# Altium footprint library Kanaloa_v2.0.0_Loko.PcbLib: 26 footprints (part 1 of 2)
Each footprint in its own frame and in the unit in brackets; x right, y up, seen from the top. Pads: shape width x height; smd on the part's side, far side on the other; paste and mask are expansions set on the pad; w line width, h text height; cw(c..) or ccw(c..) is an arc to the next point about the centre after c.
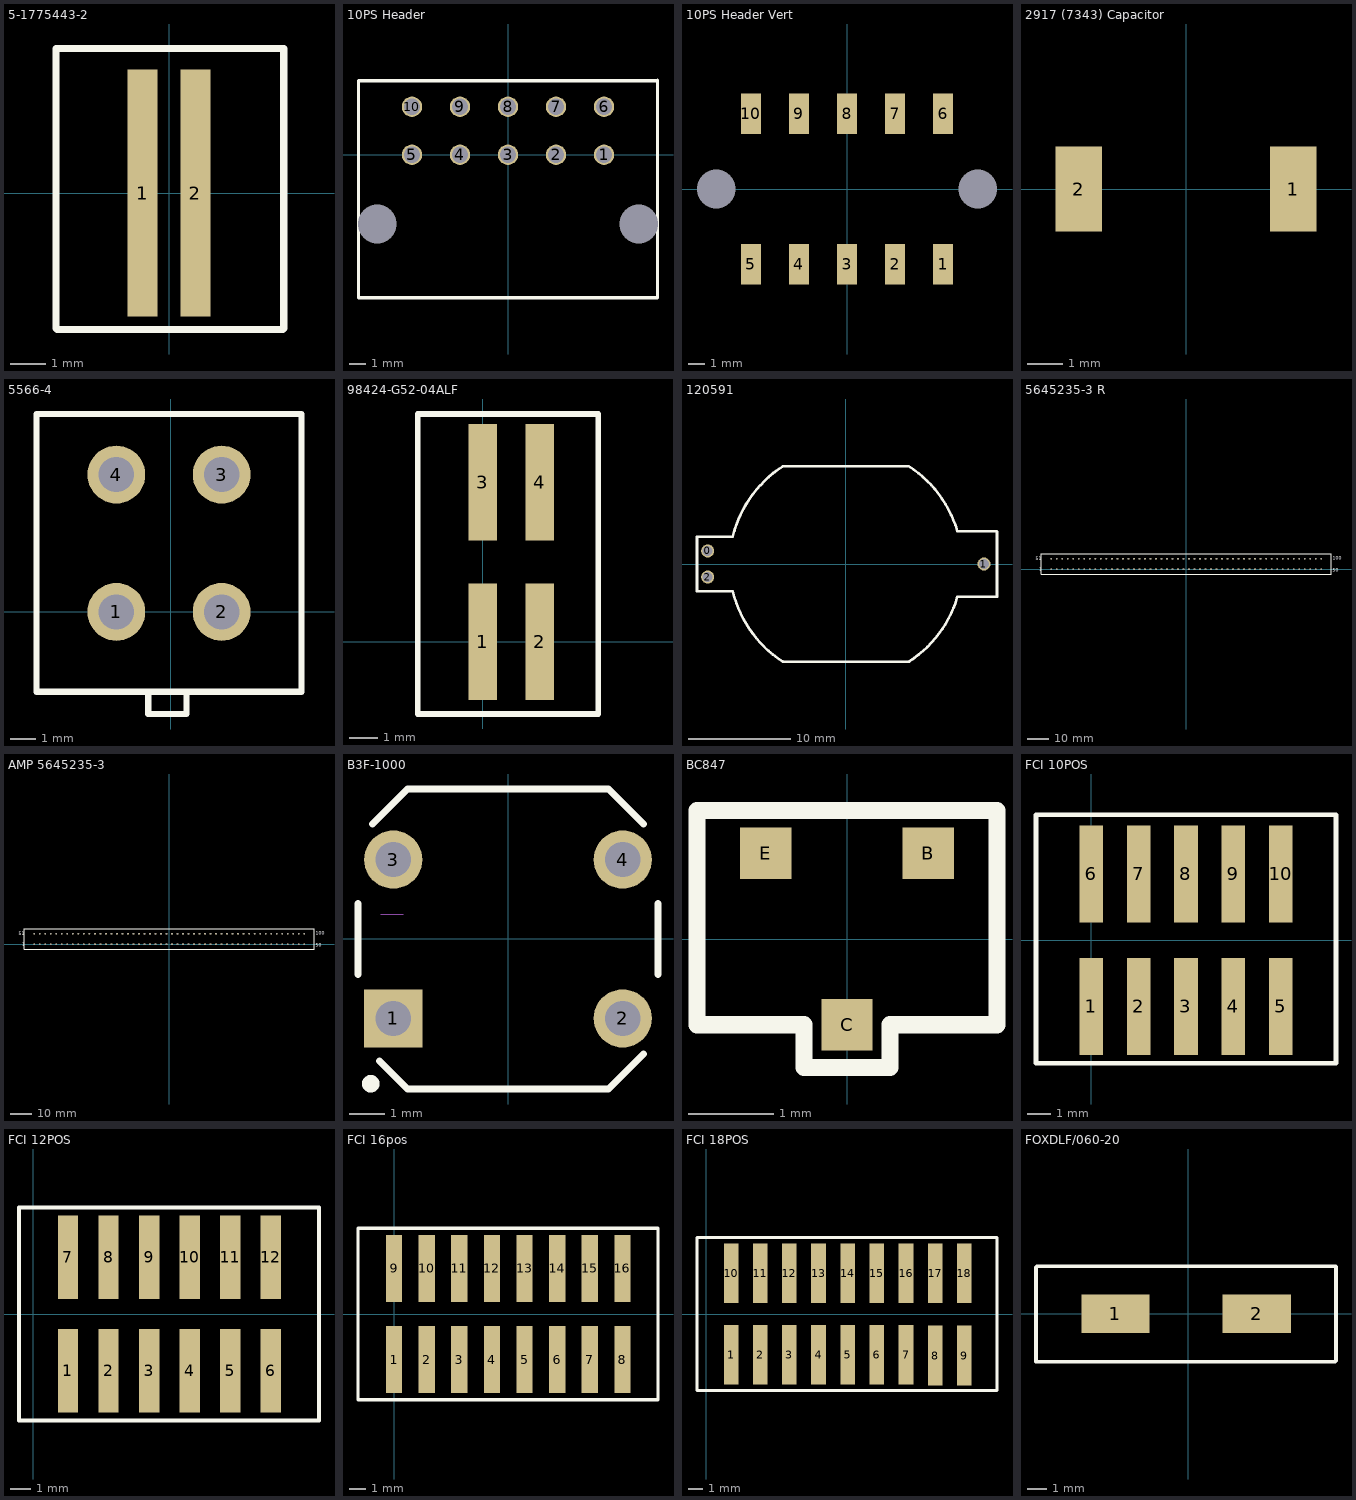
[diagram p0: the footprints below, top view; thin cyan lines are the x and y axes]

## 5-1775443-2 [mm] "CONN HEADER 1.5MM 2 POS Vert SMD"
pads (2):
  rect 0.85x7 smd: 1(-0.75,0) 2(0.75,0)
Top Overlay:
  lines w0.2: -3.2,4.089 -3.2,-3.835 -3.175,-3.861 3.226,-3.861 3.251,-3.835 3.251,4.089 -3.15,4.089
3D body: height 4.95, standoff -0.05, extent -2.25,-2.733 2.25,3.267

## 10PS Header [mil] "0430451021"
pads (12):
  round 50 hole 40: 1(236,0) 2(118,0) 3(0,0) 4(-118,0) 5(-236,0) 6(236,118) 7(118,118) 8(0,118) 9(-118,118) 10(-236,118)
  round 0 hole 95 mask+0: ""(-321,-170) ""(321,-170)
Top Overlay:
  lines w7.87: 366,182 -367,182 -367,-351 367,-351 367,183
3D body: height 200, standoff 0, extent -367,-350 367,34

## 10PS Header Vert [mil]
pads (12):
  rect 50x100 smd: 1(236,-185) 2(118,-185) 3(0,-185) 4(-118,-185) 5(-236,-185) 6(236,185) 7(118,185) 8(0,185) 9(-118,185) 10(-236,185)
  round 0 hole 95: 15(321,0) 16(-321,0)
3D body: height 389.88, standoff -79.02, extent -376.97,-220.47 376.97,220.48

## 2917 (7343) Capacitor [mil] "Tantalum Capacitor"
pads (2):
  rect 51x94 smd: 1(118,0) 2(-118,0)
3D body: height 122.05, standoff 0, extent -149.6,-90.54 149.62,90.56

## 5566-4 [mm]
pads (4):
  round 2.3 hole 1.4: 1(-2.159,0) 2(2.032,0) 3(2.032,5.461) 4(-2.159,5.461)
Top Overlay:
  lines w0.254: -0.889,-3.175 -0.889,-4.064 0.635,-4.064 0.635,-3.302 ; -5.334,-3.175 -5.334,7.874 5.207,7.874 5.207,-3.175 -5.334,-3.175
3D body: height 12.8, standoff -3.5, extent -5.334,-3.253 5.066,7.747

## 98424-G52-04ALF [mm] "FCI Connector"
pads (4):
  rect 1x4.1 smd: 1(0,0) 2(2,0) 3(0,5.6) 4(2,5.6)
Top Overlay:
  lines w0.2: -2.286,-2.54 -1.905,-2.54 4.064,-2.54 4.064,8.001 -2.286,8.001 -2.286,-2.54
3D body: height 6.43, standoff -0.02, extent -2.032,-1.706 3.968,7.294

## 120591 [mil]
pads (3):
  round 50 hole 38: 0(-530,50) 1(530,0) 2(-530,-50)
Top Overlay:
  lines w10: -571,-105 -433.46,-105 ; -571,-104 -571,105 -433.21,105 ; -433.46,-105.03 ccw(c0,0) -242.73,-374.16 ; -433.21,106.05 cw(c0,0) -242.54,374.29 ; -242.54,375 241.38,375 ; -241,-375 242,-375 ; 241.38,375.04 cw(c0,0) 427.82,126.04 ; 242.54,-374.29 ccw(c0,0) 428.12,-125.03 ; 427.82,125 578,125 580,123 580,-125 428.12,-125
3D body: height 262, standoff -110, extent -540,-375 535,375

## 5645235-3 R [mil] "Receptor"
pads (100):
  round 35 hole 25 mask+0: 1(-2450,0) 2(-2350,0) 3(-2250,0) 4(-2150,0) 5(-2050,0) 6(-1950,0) 7(-1850,0) 8(-1750,0) 9(-1650,0) 10(-1550,0) 11(-1450,0) 12(-1350,0) 13(-1250,0) 14(-1150,0) 15(-1050,0) 16(-950,0) 17(-850,0) 18(-750,0) 19(-650,0) 20(-550,0) 21(-450,0) 22(-350,0) 23(-250,0) 24(-150,0) 25(-50,0) 26(50,0) 27(150,0) 28(250,0) 29(350,0) 30(450,0) 31(550,0) 32(650,0) 33(750,0) 34(850,0) 35(950,0) 36(1050,0) 37(1150,0) 38(1250,0) 39(1350,0) 40(1450,0) 41(1550,0) 42(1650,0) 43(1750,0) 44(1850,0) 45(1950,0) 46(2050,0) 47(2150,0) 48(2250,0) 49(2350,0) 50(2450,0) 51(-2450,191) 52(-2350,191) 53(-2250,191) 54(-2150,191) 55(-2050,191) 56(-1950,191) 57(-1850,191) 58(-1750,191) 59(-1650,191) 60(-1550,191) 61(-1450,191) 62(-1350,191) 63(-1250,191) 64(-1150,191) 65(-1050,191) 66(-950,191) 67(-850,191) 68(-750,191) 69(-650,191) 70(-550,191) 71(-450,191) 72(-350,191) 73(-250,191) 74(-150,191) 75(-50,191) 76(50,191) 77(150,191) 78(250,191) 79(350,191) 80(450,191) 81(550,191) 82(650,191) 83(750,191) 84(850,191) 85(950,191) 86(1050,191) 87(1150,191) 88(1250,191) 89(1350,191) 90(1450,191) 91(1550,191) 92(1650,191) 93(1750,191) 94(1850,191) 95(1950,191) 96(2050,191) 97(2150,191) 98(2250,191) 99(2350,191) 100(2450,191)
Top Overlay:
  lines w7.87: -2630,-89 -2630,280 2630,280 2630,-89 -2630,-89
  text "100" at 2657,170 h60
  text "50" at 2657,-41 h60
  text "51" at -2726.04,165 h60
  text "1" at -2666.06,-35 h60
3D body: height 610, standoff -125, extent -2629,-89.99 2631,278.01

## AMP 5645235-3 [mil] "50 Dual Pos. Card Edge Connector"
pads (100):
  round 35 hole 25 mask+0: 1(-2450,0) 2(-2350,0) 3(-2250,0) 4(-2150,0) 5(-2050,0) 6(-1950,0) 7(-1850,0) 8(-1750,0) 9(-1650,0) 10(-1550,0) 11(-1450,0) 12(-1350,0) 13(-1250,0) 14(-1150,0) 15(-1050,0) 16(-950,0) 17(-850,0) 18(-750,0) 19(-650,0) 20(-550,0) 21(-450,0) 22(-350,0) 23(-250,0) 24(-150,0) 25(-50,0) 26(50,0) 27(150,0) 28(250,0) 29(350,0) 30(450,0) 31(550,0) 32(650,0) 33(750,0) 34(850,0) 35(950,0) 36(1050,0) 37(1150,0) 38(1250,0) 39(1350,0) 40(1450,0) 41(1550,0) 42(1650,0) 43(1750,0) 44(1850,0) 45(1950,0) 46(2050,0) 47(2150,0) 48(2250,0) 49(2350,0) 50(2450,0) 51(-2450,191) 52(-2350,191) 53(-2250,191) 54(-2150,191) 55(-2050,191) 56(-1950,191) 57(-1850,191) 58(-1750,191) 59(-1650,191) 60(-1550,191) 61(-1450,191) 62(-1350,191) 63(-1250,191) 64(-1150,191) 65(-1050,191) 66(-950,191) 67(-850,191) 68(-750,191) 69(-650,191) 70(-550,191) 71(-450,191) 72(-350,191) 73(-250,191) 74(-150,191) 75(-50,191) 76(50,191) 77(150,191) 78(250,191) 79(350,191) 80(450,191) 81(550,191) 82(650,191) 83(750,191) 84(850,191) 85(950,191) 86(1050,191) 87(1150,191) 88(1250,191) 89(1350,191) 90(1450,191) 91(1550,191) 92(1650,191) 93(1750,191) 94(1850,191) 95(1950,191) 96(2050,191) 97(2150,191) 98(2250,191) 99(2350,191) 100(2450,191)
Top Overlay:
  lines w7.87: -2630,-89 2630,-89 2630,280 -2630,280 -2630,-89
  text "1" at -2666.06,-35 h60
  text "51" at -2726.04,165 h60
  text "50" at 2657,-41 h60
  text "100" at 2657,170 h60
3D body: height 600, standoff -135, extent -2629,-89.99 2631,278.01

## B3F-1000 [mm] "OMRON Electronics Pushbutton Tactile SPST-NO 0.05A 24V"
pads (4):
  rect 1.65x1.65 hole 1: 1(-3.25,-2.25)
  round 1.65 hole 1: 2(3.25,-2.25) 3(-3.25,2.25) 4(3.25,2.25)
Top Overlay:
  circle w0.25: c-3.891,-4.1 r0.125
  lines w0.2: -4.25,-1 -4.25,1 ; -3.837,3.263 -2.85,4.25 2.85,4.25 3.837,3.263 ; -3.638,-3.458 -2.85,-4.25 2.85,-4.25 3.837,-3.263 ; 4.25,-1 4.25,1
Mechanical 1:
  lines w0: -3.6,0.7 -2.97,0.7
3D body: height 4.3, standoff -3.5, extent -3.814,-3 3.886,3

## BC847 [mm] "NPN Transistor"
pads (3):
  rect 0.6x0.6 smd: B(0.95,1) C(0,-1) E(-0.95,1)
Top Overlay:
  lines w0.2: -1.75,-1 -0.5,-1 -0.5,-1.5 0.5,-1.5 0.5,-1 1.75,-1 1.75,1.5 -1.75,1.5 -1.75,-1
3D body: height 1, standoff 0, extent -1.75,-1 1.75,1.5

## FCI 10POS [mm] "98424-G52-10ALF"
pads (10):
  rect 1x4.1 smd: 1(0,-2.8) 2(2,-2.8) 3(4,-2.8) 4(6,-2.8) 5(8,-2.8) 6(0,2.8) 7(2,2.8) 8(4,2.8) 9(6,2.8) 10(8,2.8)
Top Overlay:
  lines w0.2: -2.337,-5.2 -2.337,5.3 10.338,5.3 10.338,-5.2 -2.337,-5.2
3D body: height 6.43, standoff -0.02, extent -2.038,-4.5 9.962,4.5

## FCI 12POS [mm]
pads (12):
  rect 1x4.1 smd: 1(1.7,-2.8) 2(3.7,-2.8) 3(5.7,-2.8) 4(7.7,-2.8) 5(9.7,-2.8) 6(11.7,-2.8) 7(1.7,2.8) 8(3.7,2.8) 9(5.7,2.8) 10(7.7,2.8) 11(9.7,2.8) 12(11.7,2.8)
Top Overlay:
  lines w0.2: -0.711,-5.25 -0.711,5.25 14.072,5.25 14.072,-5.25 -0.711,-5.25
3D body: height 6.43, standoff -0.02, extent -0.279,-4.5 13.721,4.5

## FCI 16pos [mm] "98424"
pads (16):
  rect 1x4.1 smd: 1(0,-2.8) 2(2,-2.8) 3(4,-2.8) 4(6,-2.8) 5(8,-2.8) 6(10,-2.8) 7(12,-2.8) 8(14,-2.8) 9(0,2.8) 10(2,2.8) 11(4,2.8) 12(6,2.8) 13(8,2.8) 14(10,2.8) 15(12,2.8) 16(14,2.8)
Top Overlay:
  lines w0.2: -2.21,-5.25 -2.21,5.25 16.18,5.25 16.18,-5.25 -2.21,-5.25
3D body: height 6.43, standoff -0.02, extent -2.013,-4.5 15.987,4.5

## FCI 18POS [mm]
pads (18):
  rect 1x4.1 smd: 1(1.7,-2.8) 2(3.7,-2.8) 3(5.7,-2.8) 4(7.7,-2.8) 5(9.7,-2.8) 6(11.7,-2.8) 7(13.7,-2.8) 8(15.7,-2.851) 9(17.7,-2.851) 10(1.7,2.8) 11(3.7,2.8) 12(5.7,2.8) 13(7.7,2.8) 14(9.7,2.8) 15(11.7,2.8) 16(13.7,2.8) 17(15.7,2.8) 18(17.7,2.8)
Top Overlay:
  lines w0.2: -0.635,-5.25 -0.635,5.25 19.939,5.25 19.939,-5.25 -0.635,-5.25
3D body: height 6.43, standoff -0.02, extent -0.311,-4.5 19.689,4.5

## FOXDLF/060-20 [mm] "6.0 MHZ Surface Mount Crystal"
pads (2):
  rect 3.5x2 smd: 1(-3.75,0) 2(3.5,0)
Top Overlay:
  lines w0.2: -7.823,-2.464 -7.823,2.388 -7.772,2.438 7.544,2.438 7.569,2.413 7.569,-2.413 7.518,-2.464 -7.823,-2.464
3D body: height 2.52, standoff 0, extent -7.652,-2.25 7.348,2.25